# Altium footprint library Res_TE_Connectivity_CFR16J120R_eec_MFG.PcbLib: 2 footprints
Each footprint in its own frame and in the unit in brackets; x right, y up, seen from the top. Pads: shape width x height; smd on the part's side, far side on the other; paste and mask are expansions set on the pad; w line width, h text height; cw(c..) or ccw(c..) is an arc to the next point about the centre after c.
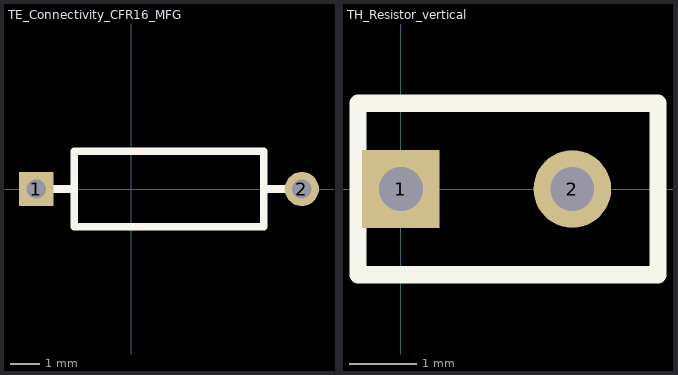
[diagram p0: the footprints below, top view; thin cyan lines are the x and y axes]

## TE_Connectivity_CFR16_MFG [mm]
pads (2):
  rect 1.15x1.15 hole 0.65 paste-1000 mask+0: 1(-3.175,0)
  round 1.15 hole 0.65 paste-1000 mask+0: 2(5.715,0)
Top Overlay:
  lines w0.254: -3.175,0 -1.905,0 ; 5.715,0 4.445,0 ; -1.905,0 -1.905,1.27 4.445,1.27 4.445,0 ; -1.905,0 -1.905,-1.27 4.445,-1.27 4.445,0
3D body "res l6,2xd2,3xld0,6mm p8,64mm minimal ld0,6mm.stp": height 2.58, standoff -3.1, extent -3.34,-1.145 5.88,1.145

## TH_Resistor_vertical [mm]
pads (2):
  rect 1.15x1.15 hole 0.65 paste-1000 mask+0: 1(0,0)
  round 1.15 hole 0.65 paste-1000 mask+0: 2(2.54,0)
Top Overlay:
  lines w0.254: -0.635,-1.27 3.81,-1.27 3.81,1.27 -0.635,1.27 -0.635,-1.27
3D body "res vert l6,2xd2,3xld0,6mm p2,54mm mirror v0.stp": height 9.37, standoff -3.29, extent -0.336,-1.143 3.638,1.147